# Altium footprint library DS-1043-24.PcbLib: 1 footprints
Each footprint in its own frame and in the unit in brackets; x right, y up, seen from the top. Pads: shape width x height; smd on the part's side, far side on the other; paste and mask are expansions set on the pad; w line width, h text height; cw(c..) or ccw(c..) is an arc to the next point about the centre after c.
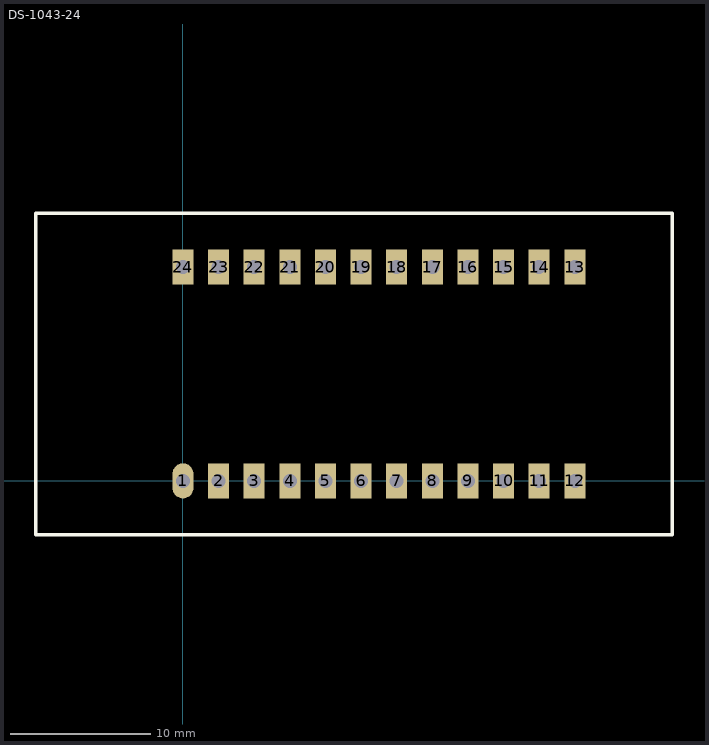
[diagram p0: the footprint, top view; thin cyan lines are the x and y axes]

## DS-1043-24 [mm] "DIP-24 ZIF socket"
pads (24):
  oval 1.5x2.5 hole 1: 1(0,0)
  rect 1.5x2.5 hole 1: 2(2.54,0) 3(5.08,0) 4(7.62,0) 5(10.16,0) 6(12.7,0) 7(15.24,0) 8(17.78,0) 9(20.32,0) 10(22.86,0) 11(25.4,0) 12(27.94,0) 13(27.94,15.24) 14(25.4,15.24) 15(22.86,15.24) 16(20.32,15.24) 17(17.78,15.24) 18(15.24,15.24) 19(12.7,15.24) 20(10.16,15.24) 21(7.62,15.24) 22(5.08,15.24) 23(2.54,15.24) 24(0,15.24)
Top Overlay:
  lines w0.254: -10.49,-3.83 34.881,-3.83 34.881,19.07 -10.49,19.07 -10.49,-3.825
3D body "DS1043-24.STEP": height 23.1, standoff -3.2, extent -10.5,-4.825 34.8,19.075